# Altium schematic symbol library MICROSD_SPI_OR_SDIO_CARD.SchLib: 1 symbol
Pins are listed as number, name and electrical type; pins without a type are passive.

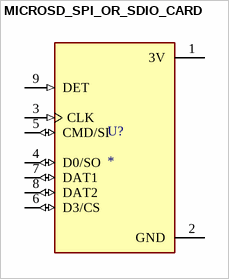
[diagram p0: symbol MICROSD_SPI_OR_SDIO_CARD]

## MICROSD_SPI_OR_SDIO_CARD
designator U?
Memory Card Connectors Raspberry pi microSD card adapter; MF: Adafruit Industries; MP: MicroSD SPI or SDIO Card; SnapEDA_Link: https://www.snapeda.com/parts/MicroSD%20SPI%20or%20SDIO%20Card/Adafruit+Industries/view-part/?ref=snap; Package: Package; Value: *; Check_prices: https://www.snapeda.com/parts/MicroSD%20SPI%20or%20SDIO%20Card/Adafruit+Industries/view-part/?ref=eda
footprint MODULE_MICROSD_SPI_OR_SDIO_CARD
pins: 1 3V (power), 2 GND (power), 3 CLK (in), 4 D0/SO (io), 5 CMD/SI (io), 6 D3/CS (io), 7 DAT1 (io), 8 DAT2 (io), 9 DET (in)